# EAGLE library part WFT0420CZ15 (library PartsForProto)
インターフェースピン
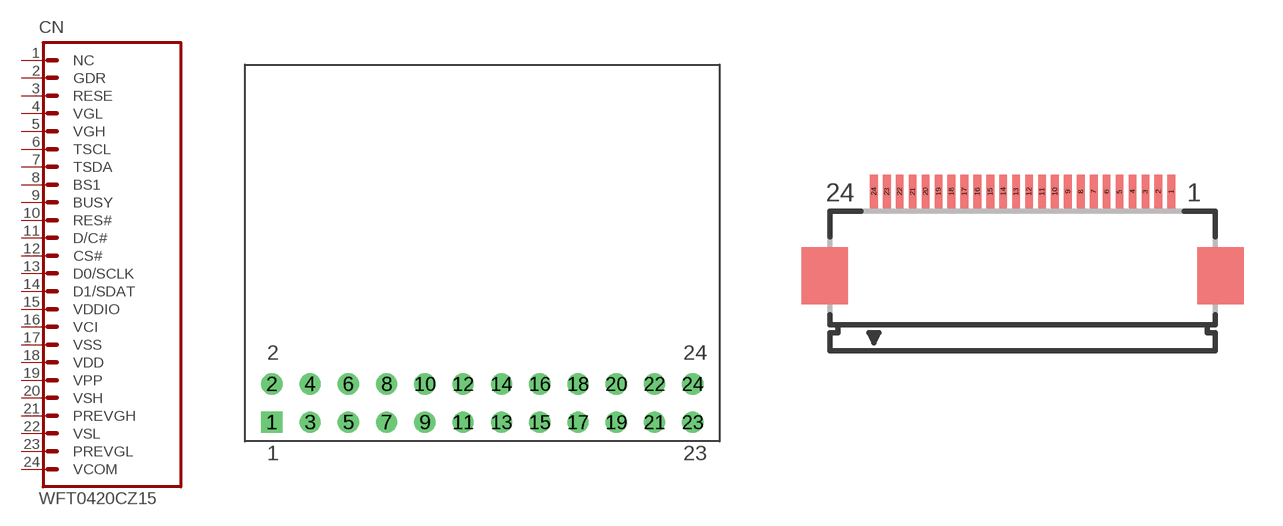
[diagram p18: symbol with the pads of FCB05-24P-REVERSE; footprints FCB05-24P-REVERSE, FH12A-24S-0.5SH]

Designator prefix CN

## WFT0420CZ15  [FCB05-24P-REVERSE]
1  NC  nc
2  GDR
3  RESE
4  VGL  pas
5  VGH  pas
6  TSCL
7  TSDA
8  BS1
9  BUSY
10  RES#
11  D/C#
12  CS#
13  D0/SCLK
14  D1/SDAT
15  VDDIO  pas
16  VCI  pas
17  VSS  pas
18  VDD  pas
19  VPP  pas
20  VSH  pas
21  PREVGH  pas
22  VSL  pas
23  PREVGL  pas
24  VCOM  pas

## WFT0420CZ15-SMD  [FH12A-24S-0.5SH]
Pads as for FCB05-24P-REVERSE

## WFT0420CZ15-SMD_  [FH12A-24S-0.5SH_DEV]
Pads as for FCB05-24P-REVERSE

## Footprint FCB05-24P-REVERSE (pad centres in mm)
裏返しで使用するパターン FCB05-24PをTop Contactで使用するための措置
drill 0.9 square: 1 0,0
drill 0.9: 2 0,2.54; 3 2.54,0; 4 2.54,2.54; 5 5.08,0; 6 5.08,2.54; 7 7.62,0; 8 7.62,2.54; 9 10.16,0; 10 10.16,2.54; 11 12.7,0; 12 12.7,2.54; 13 15.24,0; 14 15.24,2.54; 15 17.78,0; 16 17.78,2.54; 17 20.32,0; 18 20.32,2.54; 19 22.86,0; 20 22.86,2.54; 21 25.4,0; 22 25.4,2.54; 23 27.94,0; 24 27.94,2.54

## Footprint FH12A-24S-0.5SH (pad centres in mm)
0.5mm Pitch Connectors For FPC/FFC Source: Data sheet <http://www.hirose.co.jp/cataloge_hp/e58605370.pdf>
smd 0.3 x 1.3: 1 5.75,3.25; 2 5.25,3.25; 3 4.75,3.25; 4 4.25,3.25; 5 3.75,3.25; 6 3.25,3.25; 7 2.75,3.25; 8 2.25,3.25; 9 1.75,3.25; 10 1.25,3.25; 11 0.75,3.25; 12 0.25,3.25; 13 -0.25,3.25; 14 -0.75,3.25; 15 -1.25,3.25; 16 -1.75,3.25; 17 -2.25,3.25; 18 -2.75,3.25; 19 -3.25,3.25; 20 -3.75,3.25; 21 -4.25,3.25; 22 -4.75,3.25; 23 -5.25,3.25; 24 -5.75,3.25

## Footprint FH12A-24S-0.5SH_DEV (pad centres in mm)
0.5mm Pitch Connectors For FPC/FFC 手はんだ用パターン padとstopを0.8mmずつ拡張しています。
smd 0.3 x 2.1: 1 5.75,3.65; 2 5.25,3.65; 3 4.75,3.65; 4 4.25,3.65; 5 3.75,3.65; 6 3.25,3.65; 7 2.75,3.65; 8 2.25,3.65; 9 1.75,3.65; 10 1.25,3.65; 11 0.75,3.65; 12 0.25,3.65; 13 -0.25,3.65; 14 -0.75,3.65; 15 -1.25,3.65; 16 -1.75,3.65; 17 -2.25,3.65; 18 -2.75,3.65; 19 -3.25,3.65; 20 -3.75,3.65; 21 -4.25,3.65; 22 -4.75,3.65; 23 -5.25,3.65; 24 -5.75,3.65